# EAGLE library part SIL164 (library dvi)
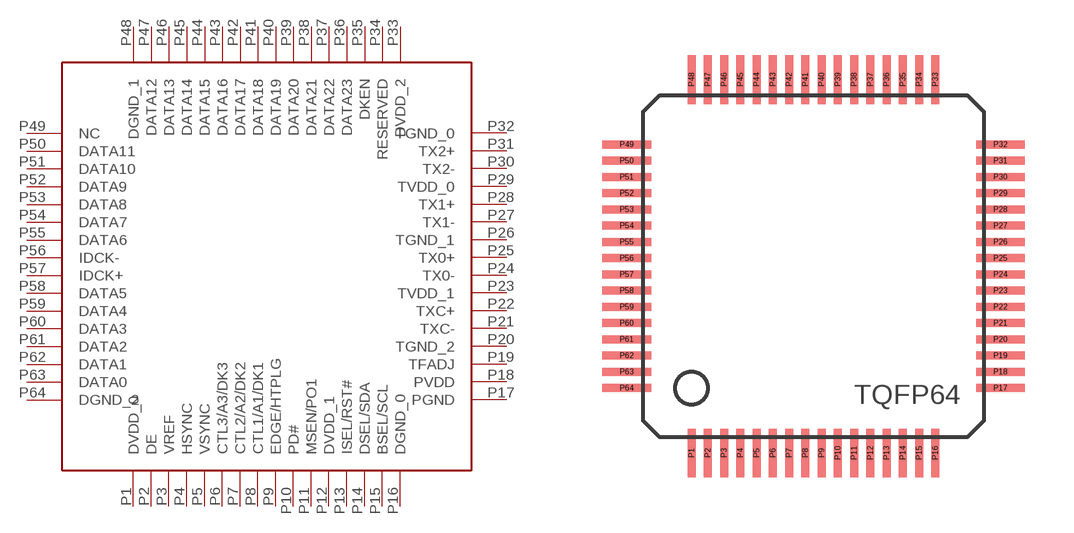
[diagram p0: symbol with the pads of TQFP64; footprint TQFP64]

Designator prefix -

## SIL164  [TQFP64]
P1  DVDD_0  pwr
P2  DE  in
P3  VREF  pwr
P4  HSYNC  in
P5  VSYNC  in
P6  CTL3/A3/DK3
P7  CTL2/A2/DK2
P8  CTL1/A1/DK1
P9  EDGE/HTPLG
P10  PD#
P11  MSEN/PO1  out
P12  DVDD_1  pwr
P13  ISEL/RST#  in
P14  DSEL/SDA
P15  BSEL/SCL  in
P16  DGND_0  pwr
P17  PGND  pwr
P18  PVDD  pwr
P19  TFADJ
P20  TGND_2  pwr
P21  TXC-  out
P22  TXC+  out
P23  TVDD_1  pwr
P24  TX0-  out
P25  TX0+  out
P26  TGND_1  pwr
P27  TX1-  out
P28  TX1+  out
P29  TVDD_0  pwr
P30  TX2-  out
P31  TX2+  out
P32  TGND_0  pwr
P33  DVDD_2  pwr
P34  RESERVED  nc
P35  DKEN  in
P36  DATA23  in
P37  DATA22  in
P38  DATA21  in
P39  DATA20  in
P40  DATA19  in
P41  DATA18  in
P42  DATA17  in
P43  DATA16  in
P44  DATA15  in
P45  DATA14  in
P46  DATA13  in
P47  DATA12  in
P48  DGND_1  pwr
P49  NC  nc
P50  DATA11  in
P51  DATA10  in
P52  DATA9  in
P53  DATA8  in
P54  DATA7  in
P55  DATA6  in
P56  IDCK-  in
P57  IDCK+  in
P58  DATA5  in
P59  DATA4  in
P60  DATA3  in
P61  DATA2  in
P62  DATA1  in
P63  DATA0  in
P64  DGND_2  pwr

## Footprint TQFP64 (pad centres in mm)
smd 0.25 x 1.5: P1 -4,-5.5; P2 -3.5,-5.5; P3 -3,-5.5; P4 -2.5,-5.5; P5 -2,-5.5; P6 -1.5,-5.5; P7 -1,-5.5; P8 -0.5,-5.5; P9 0,-5.5; P10 0.5,-5.5; P11 1,-5.5; P12 1.5,-5.5; P13 2,-5.5; P14 2.5,-5.5; P15 3,-5.5; P16 3.5,-5.5; P33 3.5,6; P34 3,6; P35 2.5,6; P36 2,6; P37 1.5,6; P38 1,6; P39 0.5,6; P40 0,6; P41 -0.5,6; P42 -1,6; P43 -1.5,6; P44 -2,6; P45 -2.5,6; P46 -3,6; P47 -3.5,6; P48 -4,6
smd 1.5 x 0.25: P17 5.5,-3.5; P18 5.5,-3; P19 5.5,-2.5; P20 5.5,-2; P21 5.5,-1.5; P22 5.5,-1; P23 5.5,-0.5; P24 5.5,0; P25 5.5,0.5; P26 5.5,1; P27 5.5,1.5; P28 5.5,2; P29 5.5,2.5; P30 5.5,3; P31 5.5,3.5; P32 5.5,4; P49 -6,4; P50 -6,3.5; P51 -6,3; P52 -6,2.5; P53 -6,2; P54 -6,1.5; P55 -6,1; P56 -6,0.5; P57 -6,0; P58 -6,-0.5; P59 -6,-1; P60 -6,-1.5; P61 -6,-2; P62 -6,-2.5; P63 -6,-3; P64 -6,-3.5